# EAGLE library part FT232HL (library BaseApp)
Digikey No. :- __768-1101-1-ND__
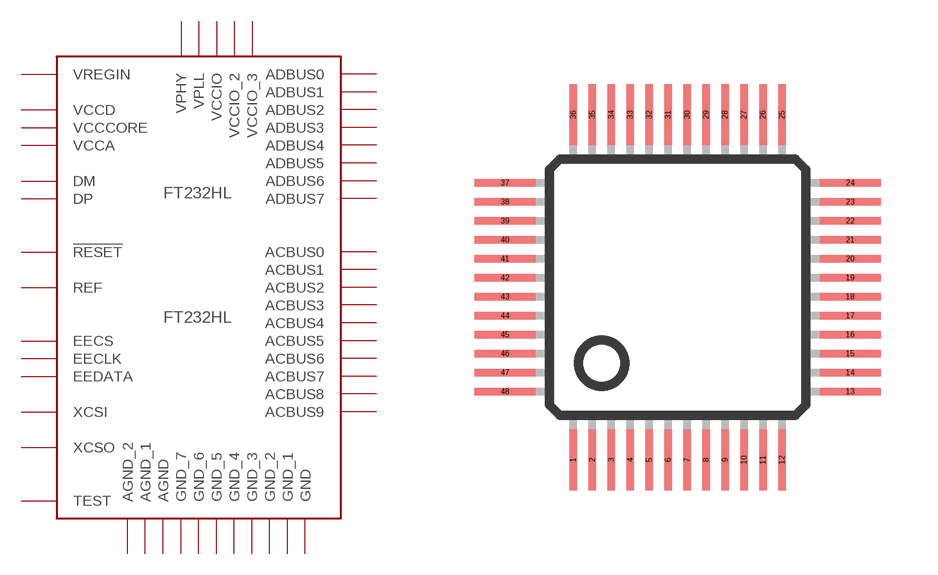
[diagram p7: symbol with the pads of 48LQFP; footprint 48LQFP]

Designator prefix FT232HL

## FT232HL  [48LQFP]
1  XCSI
2  XCSO
3  VPHY
4  AGND_2
5  REF
6  DM
7  DP
8  VPLL
9  AGND_1
10  GND_7
11  GND_6
12  VCCIO
13  ADBUS0
14  ADBUS1
15  ADBUS2
16  ADBUS3
17  ADBUS4
18  ADBUS5
19  ADBUS6
20  ADBUS7
21  ACBUS0
22  GND_5
23  GND_4
24  VCCIO_2
25  ACBUS1
26  ACBUS2
27  ACBUS3
28  ACBUS4
29  ACBUS5
30  ACBUS6
31  ACBUS7
32  ACBUS8
33  ACBUS9
34  !RESET
35  GND_3
36  GND_2
37  VCCA
38  VCCCORE
39  VCCD
40  VREGIN
41  AGND
42  TEST
43  EEDATA
44  EECLK
45  EECS
46  VCCIO_3
47  GND_1
48  GND

## Footprint 48LQFP (pad centres in mm)
smd 0.2 x 1.6: 1 -2.75,-4.55; 2 -2.25,-4.55; 3 -1.75,-4.55; 4 -1.25,-4.55; 5 -0.75,-4.55; 6 -0.25,-4.55; 7 0.25,-4.55; 8 0.75,-4.55; 9 1.25,-4.55; 10 1.75,-4.55; 11 2.25,-4.55; 12 2.75,-4.55; 25 2.75,4.55; 26 2.25,4.55; 27 1.75,4.55; 28 1.25,4.55; 29 0.75,4.55; 30 0.25,4.55; 31 -0.25,4.55; 32 -0.75,4.55; 33 -1.25,4.55; 34 -1.75,4.55; 35 -2.25,4.55; 36 -2.75,4.55
smd 1.6 x 0.2: 13 4.55,-2.75; 14 4.55,-2.25; 15 4.55,-1.75; 16 4.55,-1.25; 17 4.55,-0.75; 18 4.55,-0.25; 19 4.55,0.25; 20 4.55,0.75; 21 4.55,1.25; 22 4.55,1.75; 23 4.55,2.25; 24 4.55,2.75; 37 -4.55,2.75; 38 -4.55,2.25; 39 -4.55,1.75; 40 -4.55,1.25; 41 -4.55,0.75; 42 -4.55,0.25; 43 -4.55,-0.25; 44 -4.55,-0.75; 45 -4.55,-1.25; 46 -4.55,-1.75; 47 -4.55,-2.25; 48 -4.55,-2.75